# Altium footprint library BIEN AP 5V-700ma.PcbLib: 2 footprints
Each footprint in its own frame and in the unit in brackets; x right, y up, seen from the top. Pads: shape width x height; smd on the part's side, far side on the other; paste and mask are expansions set on the pad; w line width, h text height; cw(c..) or ccw(c..) is an arc to the next point about the centre after c.
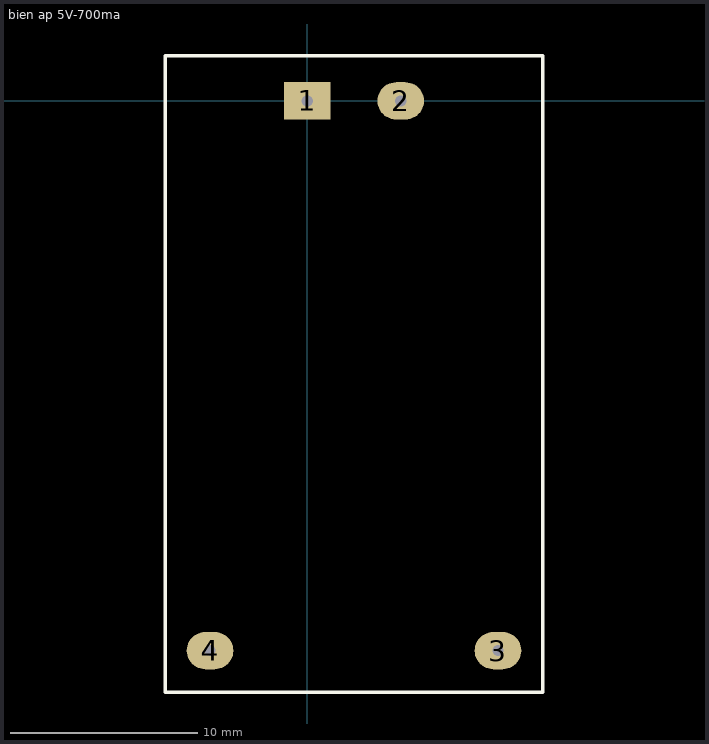
[diagram p0: the footprints below, top view; thin cyan lines are the x and y axes]

## bien ap 5V-700ma [mm]
pads (4):
  rect 2.5x2 hole 0.6: 1(0,0)
  oval 2.5x2 hole 0.6: 2(5,0) 3(10.2,-29.4) 4(-5.2,-29.4)
Top Overlay:
  lines w0.2: -7.6,-31.623 -7.6,2.413 12.6,2.413 12.6,-31.623 -7.6,-31.623
3D body: height 15.1, standoff -5, extent -7.627,-31.478 12.573,2.522

## PCBComponent_1 [mm]